# EAGLE library part NJU7043D (library OPAMP)
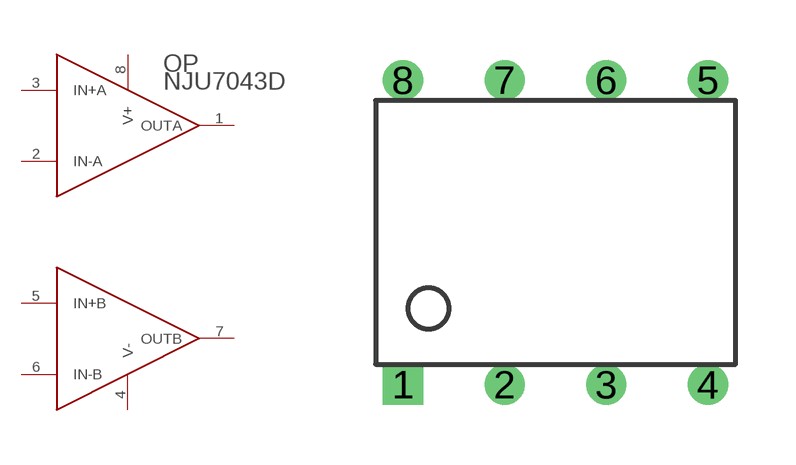
[diagram p0: symbol with the pads of DIP8; footprint DIP8]

Designator prefix OP

## NJU7043D  [DIP8]
1  OUTA
2  IN-A
3  IN+A
4  V-
5  IN+B
6  IN-B
7  OUTB
8  V+

## Footprint DIP8 (pad centres in mm)
drill 0.5 square: 1 -3.81,-3.81
drill 0.5: 2 -1.27,-3.81; 3 1.27,-3.81; 4 3.81,-3.81; 5 3.81,3.81; 6 1.27,3.81; 7 -1.27,3.81; 8 -3.81,3.81